# Altium footprint library PQFP-208.PcbLib: 1 footprints
Each footprint in its own frame and in the unit in brackets; x right, y up, seen from the top. Pads: shape width x height; smd on the part's side, far side on the other; paste and mask are expansions set on the pad; w line width, h text height; cw(c..) or ccw(c..) is an arc to the next point about the centre after c.
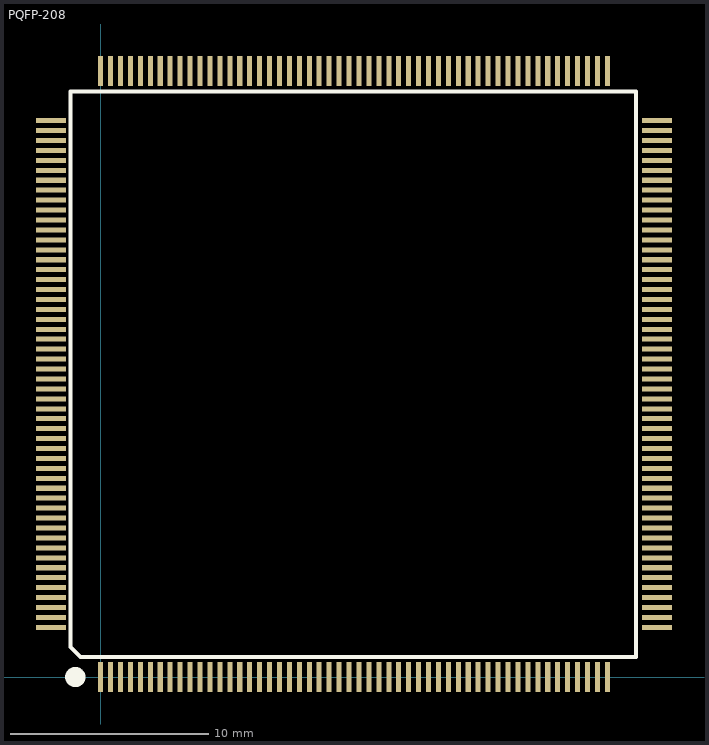
[diagram p0: the footprint, top view; thin cyan lines are the x and y axes]

## PQFP-208 [mil]
pads (208):
  rect 10x60 smd: 1(0.18,0) 2(19.87,0) 3(39.55,0) 4(59.24,0) 5(78.92,0) 6(98.61,0) 7(118.3,0) 8(137.98,0) 9(157.66,0) 10(177.35,0) 11(197.04,0) 12(216.72,0) 13(236.41,0) 14(256.09,0) 15(275.78,0) 16(295.46,0) 17(315.15,0) 18(334.83,0) 19(354.52,0) 20(374.2,0) 21(393.89,0) 22(413.57,0) 23(433.26,0) 24(452.94,0) 25(472.63,0) 26(492.31,0) 27(512,0) 28(531.68,0) 29(551.37,0) 30(571.05,0) 31(590.74,0) 32(610.42,0) 33(630.11,0) 34(649.79,0) 35(669.48,0) 36(689.16,0) 37(708.85,0) 38(728.53,0) 39(748.22,0) 40(767.9,0) 41(787.59,0) 42(807.27,0) 43(826.96,0) 44(846.64,0) 45(866.33,0) 46(886.01,0) 47(905.7,0) 48(925.38,0) 49(945.07,0) 50(964.75,0) 51(984.44,0) 52(1004.12,0) 105(1004.12,1200.79) 106(984.44,1200.79) 107(964.75,1200.79) 108(945.07,1200.79) 109(925.38,1200.79) 110(905.7,1200.79) 111(886.01,1200.79) 112(866.33,1200.79) 113(846.64,1200.79) 114(826.96,1200.79) 115(807.27,1200.79) 116(787.59,1200.79) 117(767.9,1200.79) 118(748.22,1200.79) 119(728.53,1200.79) 120(708.85,1200.79) 121(689.16,1200.79) 122(669.48,1200.79) 123(649.79,1200.79) 124(630.11,1200.79) 125(610.42,1200.79) 126(590.74,1200.79) 127(571.05,1200.79) 128(551.37,1200.79) 129(531.68,1200.79) 130(512,1200.79) 131(492.31,1200.79) 132(472.63,1200.79) 133(452.94,1200.79) 134(433.26,1200.79) 135(413.57,1200.79) 136(393.89,1200.79) 137(374.2,1200.79) 138(354.52,1200.79) 139(334.83,1200.79) 140(315.15,1200.79) 141(295.46,1200.79) 142(275.78,1200.79) 143(256.09,1200.79) 144(236.41,1200.79) 145(216.72,1200.79) 146(197.03,1200.79) 147(177.35,1200.79) 148(157.66,1200.79) 149(137.98,1200.79) 150(118.3,1200.79) 151(98.61,1200.79) 152(78.92,1200.79) 153(59.24,1200.79) 154(39.55,1200.79) 155(19.87,1200.79) 156(0.18,1200.79)
  rect 60x10 smd: 53(1102.55,98.42) 54(1102.55,118.11) 55(1102.55,137.79) 56(1102.55,157.48) 57(1102.55,177.16) 58(1102.55,196.85) 59(1102.55,216.54) 60(1102.55,236.22) 61(1102.55,255.91) 62(1102.55,275.59) 63(1102.55,295.28) 64(1102.55,314.96) 65(1102.55,334.65) 66(1102.55,354.33) 67(1102.55,374.02) 68(1102.55,393.7) 69(1102.55,413.39) 70(1102.55,433.07) 71(1102.55,452.76) 72(1102.55,472.44) 73(1102.55,492.13) 74(1102.55,511.81) 75(1102.55,531.5) 76(1102.55,551.18) 77(1102.55,570.87) 78(1102.55,590.55) 79(1102.55,610.24) 80(1102.55,629.92) 81(1102.55,649.61) 82(1102.55,669.29) 83(1102.55,688.98) 84(1102.55,708.66) 85(1102.55,728.35) 86(1102.55,748.03) 87(1102.55,767.72) 88(1102.55,787.4) 89(1102.55,807.09) 90(1102.55,826.77) 91(1102.55,846.46) 92(1102.55,866.14) 93(1102.55,885.83) 94(1102.55,905.51) 95(1102.55,925.2) 96(1102.55,944.88) 97(1102.55,964.57) 98(1102.55,984.25) 99(1102.55,1003.94) 100(1102.55,1023.62) 101(1102.55,1043.31) 102(1102.55,1062.99) 103(1102.55,1082.68) 104(1102.55,1102.36) 157(-98.24,1102.36) 158(-98.24,1082.68) 159(-98.24,1062.99) 160(-98.24,1043.31) 161(-98.24,1023.62) 162(-98.24,1003.94) 163(-98.24,984.25) 164(-98.24,964.57) 165(-98.24,944.88) 166(-98.24,925.2) 167(-98.24,905.51) 168(-98.24,885.83) 169(-98.24,866.14) 170(-98.24,846.46) 171(-98.24,826.77) 172(-98.24,807.09) 173(-98.24,787.4) 174(-98.24,767.72) 175(-98.24,748.03) 176(-98.24,728.35) 177(-98.24,708.66) 178(-98.24,688.98) 179(-98.24,669.29) 180(-98.24,649.61) 181(-98.24,629.92) 182(-98.24,610.24) 183(-98.24,590.55) 184(-98.24,570.87) 185(-98.24,551.18) 186(-98.24,531.5) 187(-98.24,511.81) 188(-98.24,492.13) 189(-98.24,472.44) 190(-98.24,452.76) 191(-98.24,433.07) 192(-98.24,413.39) 193(-98.24,393.7) 194(-98.24,374.02) 195(-98.24,354.33) 196(-98.24,334.65) 197(-98.24,314.96) 198(-98.24,295.28) 199(-98.24,275.59) 200(-98.24,255.91) 201(-98.24,236.22) 202(-98.24,216.53) 203(-98.24,196.85) 204(-98.24,177.16) 205(-98.24,157.48) 206(-98.24,137.79) 207(-98.24,118.11) 208(-98.24,98.42)
Top Overlay:
  circle w20: c-50,0 r10
  lines w8: -59.5,59.5 -40,40 1060.5,40 1060.5,1160 -59.5,1160 -59.5,59.5
3D body: height 140.16, standoff 0, extent -59.52,39.98 1060.52,1160.02